# Altium footprint library Analog Devices.PcbLib: 28 footprints (part 2 of 2)
Each footprint in its own frame and in the unit in brackets; x right, y up, seen from the top. Pads: shape width x height; smd on the part's side, far side on the other; paste and mask are expansions set on the pad; w line width, h text height; cw(c..) or ccw(c..) is an arc to the next point about the centre after c.
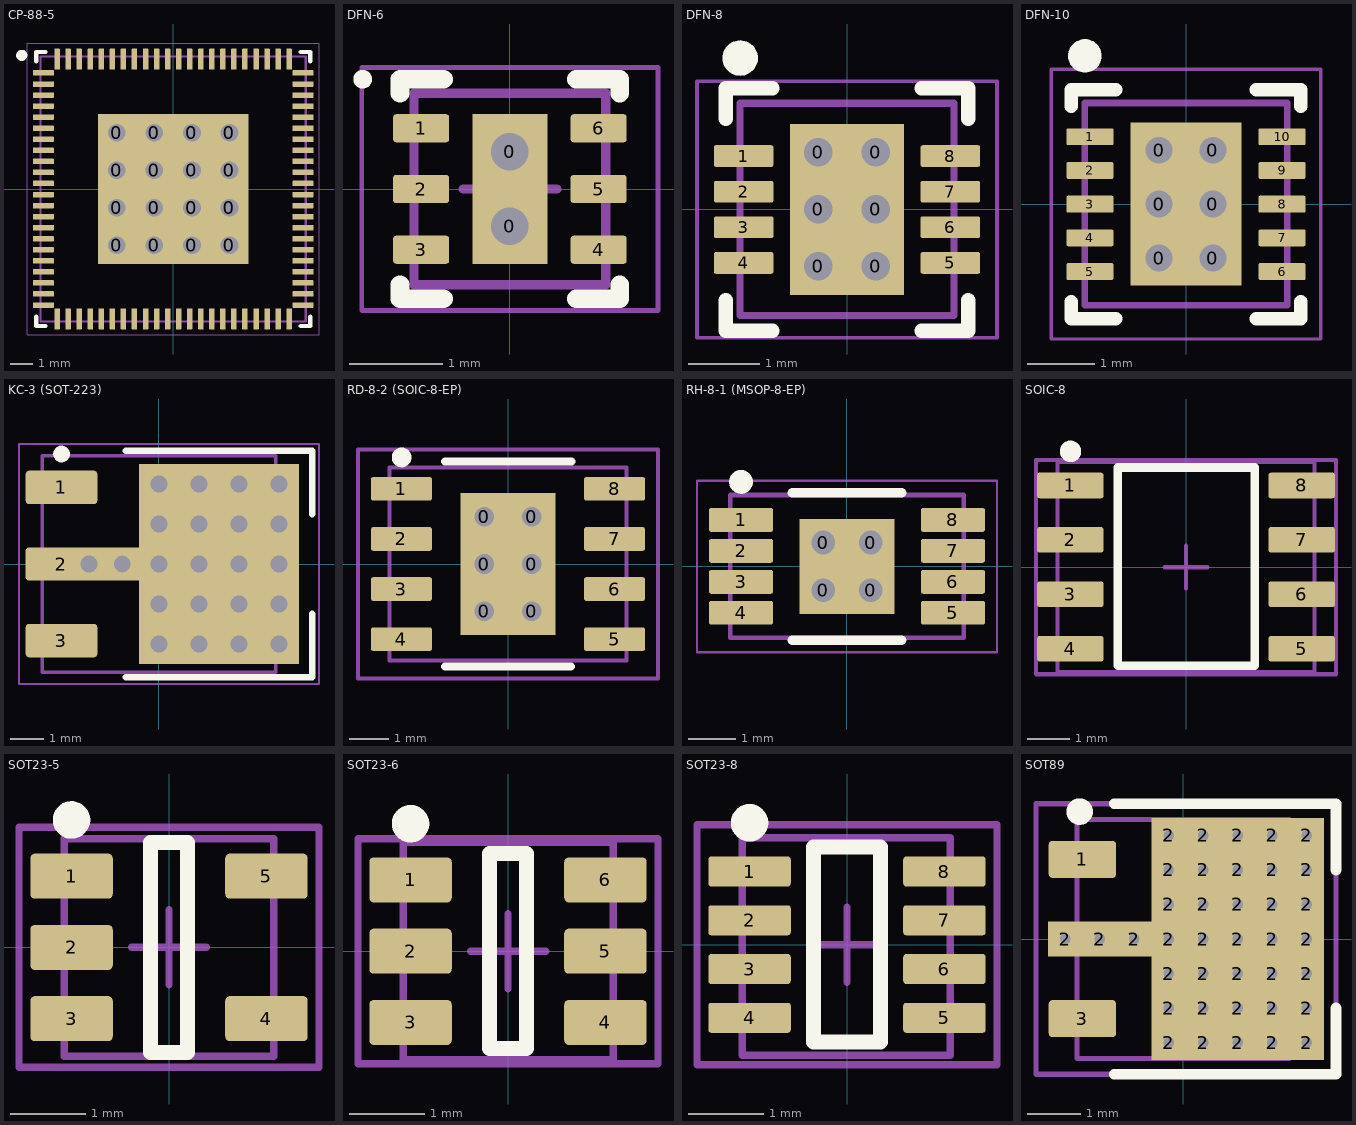
[diagram p1: the footprints below, top view; thin cyan lines are the x and y axes]

## CP-88-5 [mm] "QFN, 88-Leads, Body 12.00x12.00mm, Pitch 0.50mm, Thermal Pad 6.70x6.70mm, IPC Medium Density"
height 0.9
pads (104):
  rect 1.7x1.7 hole 0.8: 0(-2.55,-2.55) 0(-2.55,-0.85) 0(-2.55,0.85) 0(-2.55,2.55) 0(-0.85,-2.55) 0(-0.85,-0.85) 0(-0.85,0.85) 0(-0.85,2.55) 0(0.85,-2.55) 0(0.85,-0.85) 0(0.85,0.85) 0(0.85,2.55) 0(2.55,-2.55) 0(2.55,-0.85) 0(2.55,0.85) 0(2.55,2.55)
  rrect20% 0.95x0.25 smd: 1(-5.875,5.25) 2(-5.875,4.75) 3(-5.875,4.25) 4(-5.875,3.75) 5(-5.875,3.25) 6(-5.875,2.75) 7(-5.875,2.25) 8(-5.875,1.75) 9(-5.875,1.25) 10(-5.875,0.75) 11(-5.875,0.25) 12(-5.875,-0.25) 13(-5.875,-0.75) 14(-5.875,-1.25) 15(-5.875,-1.75) 16(-5.875,-2.25) 17(-5.875,-2.75) 18(-5.875,-3.25) 19(-5.875,-3.75) 20(-5.875,-4.25) 21(-5.875,-4.75) 22(-5.875,-5.25) 45(5.875,-5.25) 46(5.875,-4.75) 47(5.875,-4.25) 48(5.875,-3.75) 49(5.875,-3.25) 50(5.875,-2.75) 51(5.875,-2.25) 52(5.875,-1.75) 53(5.875,-1.25) 54(5.875,-0.75) 55(5.875,-0.25) 56(5.875,0.25) 57(5.875,0.75) 58(5.875,1.25) 59(5.875,1.75) 60(5.875,2.25) 61(5.875,2.75) 62(5.875,3.25) 63(5.875,3.75) 64(5.875,4.25) 65(5.875,4.75) 66(5.875,5.25)
  rrect20% 0.25x0.95 smd: 23(-5.25,-5.875) 24(-4.75,-5.875) 25(-4.25,-5.875) 26(-3.75,-5.875) 27(-3.25,-5.875) 28(-2.75,-5.875) 29(-2.25,-5.875) 30(-1.75,-5.875) 31(-1.25,-5.875) 32(-0.75,-5.875) 33(-0.25,-5.875) 34(0.25,-5.875) 35(0.75,-5.875) 36(1.25,-5.875) 37(1.75,-5.875) 38(2.25,-5.875) 39(2.75,-5.875) 40(3.25,-5.875) 41(3.75,-5.875) 42(4.25,-5.875) 43(4.75,-5.875) 44(5.25,-5.875) 67(5.25,5.875) 68(4.75,5.875) 69(4.25,5.875) 70(3.75,5.875) 71(3.25,5.875) 72(2.75,5.875) 73(2.25,5.875) 74(1.75,5.875) 75(1.25,5.875) 76(0.75,5.875) 77(0.25,5.875) 78(-0.25,5.875) 79(-0.75,5.875) 80(-1.25,5.875) 81(-1.75,5.875) 82(-2.25,5.875) 83(-2.75,5.875) 84(-3.25,5.875) 85(-3.75,5.875) 86(-4.25,5.875) 87(-4.75,5.875) 88(-5.25,5.875)
Top Overlay:
  circle w0.25: c-6.85,6.05 r0.125
  lines w0.2: -6.2,-5.775 -6.2,-6.2 -5.775,-6.2 ; -6.2,5.775 -6.2,6.2 -5.775,6.2 ; 5.775,-6.2 6.2,-6.2 6.2,-5.775 ; 5.775,6.2 6.2,6.2 6.2,5.775
Mechanical 13:
  lines w0.1: -6,-6 6,-6 6,6 -6,6 -6,-6
Mechanical 15:
  lines w0.05: -6.6,-6.6 6.6,-6.6 6.6,6.6 -6.6,6.6 -6.6,-6.6
  lines w0.1: -0.5,0 0.5,0 ; 0,-0.5 0,0.5
3D body "QFN-88-1EP_12x12mm_P0.5mm_EP6.7x6.7mm.STEP": height 0.85, standoff 0, extent -6,-6 6,6

## DFN-6 [mm] "SON, 6-Leads, Body 2.00x2.00mm, Pitch 0.60mm, Thermal Pad 1.40x0.80mm, IPC Medium Density"
height 1
pads (8):
  rect 0.8x0.8 hole 0.4: 0(0,-0.4) 0(0,0.4)
  rrect20% 0.6x0.3 smd: 1(-0.95,0.65) 2(-0.95,0) 3(-0.95,-0.65) 4(0.95,-0.65) 5(0.95,0) 6(0.95,0.65)
Top Overlay:
  circle w0.1: c-1.575,1.175 r0.05
  lines w0.2: -1.175,-1.025 -1.175,-1.175 -0.71,-1.175 ; -1.175,1.025 -1.175,1.175 -0.71,1.175 ; 0.71,-1.175 1.175,-1.175 1.175,-1.025 ; 0.71,1.175 1.175,1.175 1.175,1.025
Mechanical 13:
  lines w0.1: -1.025,-1.025 -1.025,1.025 1.025,1.025 1.025,-1.025 -1.025,-1.025
Mechanical 15:
  lines w0.05: -1.585,-1.3 -1.585,1.3 1.585,1.3 1.585,-1.3 -1.585,-1.3
  lines w0.1: -0.5,0 0.5,0 ; 0,-0.5 0,0.5
3D body "DFN-6-1EP_2x2mm_P0.65mm_EP1x1.6mm.step": height 0.64, standoff 0, extent -1,-0.99 1,0.99

## DFN-8 [mm]
pads (15):
  rect 0.8x0.8 hole 0.4: 0(-0.4,-0.8) 0(-0.4,0) 0(-0.4,0.8) 0(0.4,-0.8) 0(0.4,0) 0(0.4,0.8)
  rrect20% 0.838x0.305 smd: 1(-1.45,0.75) 2(-1.45,0.25) 3(-1.45,-0.25) 4(-1.45,-0.75) 5(1.45,-0.75) 6(1.45,-0.25) 7(1.45,0.25) 8(1.45,0.75)
  round 0.5 on Top Overlay: ""(-1.5,2.125)
Top Overlay:
  lines w0.2: -1.7,-1.275 -1.7,-1.7 -1.045,-1.7 ; -1.7,1.275 -1.7,1.7 -1.045,1.7 ; 1.045,-1.7 1.7,-1.7 1.7,-1.275 ; 1.045,1.7 1.7,1.7 1.7,1.275
Mechanical 1:
  lines w0.1: -1.5,-1.49 1.5,-1.49 1.5,1.49 -1.5,1.49 -1.5,-1.49
Mechanical 15:
  lines w0.05: -2.105,-1.8 -2.105,1.8 2.105,1.8 2.105,-1.8 -2.105,-1.8
3D body "DFN-8-1EP_3x3mm_P0.5mm_EP1.66x2.38mm.step": height 0.77, standoff 0, extent -1.5,-1.49 1.5,1.49

## DFN-10 [mm] "3x3 mm, pitch 0.5 mm, power pad"
height 1
pads (17):
  rect 0.85x0.82 hole 0.4: 0(-0.4,-0.8) 0(-0.4,0) 0(-0.4,0.8) 0(0.4,-0.8) 0(0.4,0) 0(0.4,0.8)
  rrect20% 0.7x0.25 smd mask+0.11: 1(-1.425,1) 2(-1.425,0.5) 3(-1.425,0) 4(-1.425,-0.5) 5(-1.425,-1) 6(1.425,-1) 7(1.425,-0.5) 8(1.425,0) 9(1.425,0.5) 10(1.425,1)
  round 0.5 on Top Overlay: ""(-1.5,2.2)
Top Overlay:
  lines w0.2: -1.7,-1.45 -1.7,-1.7 -1.045,-1.7 ; -1.7,1.45 -1.7,1.7 -1.045,1.7 ; 1.045,-1.7 1.7,-1.7 1.7,-1.45 ; 1.045,1.7 1.7,1.7 1.7,1.45
Mechanical 1:
  lines w0.1: -1.5,-1.5 -1.5,1.5 1.5,1.5 1.5,-1.5 -1.5,-1.5
Mechanical 15:
  lines w0.05: -2,-2 -2,2 2,2 2,-2 -2,-2
3D body "DFN-10-1EP_3x3mm_P0.5mm_EP1.55x2.48mm.step": height 0.77, standoff 0, extent -1.5,-1.49 1.5,1.49

## KC-3 (SOT-223) [mm] "SOT223, 4-Leads, Body 6.50x7.00mm (avg), Pitch 2.30mm, IPC Medium Density"
height 1.7
pads (25):
  rrect20% 2.15x1 smd: 1(-2.925,2.3) 2(-2.925,0) 3(-2.925,-2.3)
  rect 1x1 hole 0.5: ""(-2.1,0) ""(-1.1,0)
  rect 1.2x1.2 hole 0.5: ""(0,-2.4) ""(0,-1.2) ""(0,0) ""(0,1.2) ""(0,2.4) ""(1.2,-2.4) ""(1.2,-1.2) ""(1.2,0) ""(1.2,1.2) ""(1.2,2.4) ""(2.4,-2.4) ""(2.4,-1.2) ""(2.4,0) ""(2.4,1.2) ""(2.4,2.4) ""(3.6,-2.4) ""(3.6,-1.2) ""(3.6,0) ""(3.6,1.2) ""(3.6,2.4)
Top Overlay:
  circle w0.25: c-2.925,3.3 r0.125
  lines w0.2: -1,-3.4 4.6,-3.4 4.6,-1.5 ; -1,3.4 4.6,3.4 4.6,1.5
Mechanical 13:
  lines w0.1: -3.5,-3.25 3.5,-3.25 3.5,3.25 -3.5,3.25 -3.5,-3.25
Mechanical 15:
  lines w0.05: -4.2,-3.6 4.8,-3.6 4.8,3.6 -4.2,3.6 -4.2,-3.6
  lines w0.1: -0.5,0 0.5,0 ; 0,-0.5 0,0.5
3D body "SOT-223.step": height 1.7, standoff 0, extent -3.5,-3.25 3.5,3.25

## RD-8-2 (SOIC-8-EP) [mm] "pitch 1.27 mm, power pad"
pads (14):
  rect 1.2x1.2 hole 0.5: 0(-0.6,-1.2) 0(-0.6,0) 0(-0.6,1.2) 0(0.6,-1.2) 0(0.6,0) 0(0.6,1.2)
  rrect20% 1.55x0.6 smd: 1(-2.7,1.905) 2(-2.7,0.635) 3(-2.7,-0.635) 4(-2.7,-1.905) 5(2.7,-1.905) 6(2.7,-0.635) 7(2.7,0.635) 8(2.7,1.905)
Top Overlay:
  circle w0.25: c-2.695,2.7 r0.125
  lines w0.2: -1.6,-2.6 1.6,-2.6 ; -1.595,2.6 1.605,2.6
Mechanical 1:
  lines w0.1: -3,-2.45 -3,2.45 3,2.45 3,-2.45 -3,-2.45
Mechanical 15:
  lines w0.1: -0.25,0 0.25,0 ; 0,-0.25 0,0.25 ; -3.8,-2.9 -3.8,2.9 3.8,2.9 3.8,-2.9 -3.8,-2.9
3D body "SOIC-8-1EP_3.9x4.9mm_P1.27mm_EP2.35x2.35mm.step": height 1.75, standoff 0, extent -3,-2.45 3,2.45

## RH-8-1 (MSOP-8-EP) [mm] "TSOP, 8-Leads, Body 3.00x3.00mm, Pitch 0.65mm, Thermal Pad 1.83x1.76mm, IPC Medium Density"
height 1.1
pads (12):
  rect 1x1 hole 0.5: 0(-0.5,-0.5) 0(-0.5,0.5) 0(0.5,-0.5) 0(0.5,0.5)
  rrect20% 1.35x0.5 smd: 1(-2.225,0.975) 2(-2.225,0.325) 3(-2.225,-0.325) 4(-2.225,-0.975) 5(2.225,-0.975) 6(2.225,-0.325) 7(2.225,0.325) 8(2.225,0.975)
Top Overlay:
  circle w0.25: c-2.225,1.775 r0.125
  lines w0.2: -1.15,-1.55 1.15,-1.55 ; -1.15,1.55 1.15,1.55
Mechanical 13:
  lines w0.1: -2.45,-1.5 2.45,-1.5 2.45,1.5 -2.45,1.5 -2.45,-1.5
Mechanical 15:
  lines w0.05: -3.15,-1.8 -3.15,1.8 3.15,1.8 3.15,-1.8 -3.15,-1.8
  lines w0.1: -0.5,0 0.5,0 ; 0,-0.5 0,0.5
3D body "MSOP-8-1EP_3x3mm_P0.65mm_EP1.68x1.88mm.step": height 0.95, standoff 0, extent -2.45,-1.5 2.45,1.5

## SOIC-8 [mm] "pitch 1.27 mm"
pads (8):
  rrect20% 1.55x0.6 smd: 1(-2.7,1.905) 2(-2.7,0.635) 3(-2.7,-0.635) 4(-2.7,-1.905) 5(2.7,-1.905) 6(2.7,-0.635) 7(2.7,0.635) 8(2.7,1.905)
Top Overlay:
  circle w0.25: c-2.695,2.7 r0.125
  lines w0.2: -1.595,-2.3 1.605,-2.3 1.605,2.325 -1.595,2.325 -1.595,-2.3
Mechanical 1:
  lines w0.1: -3,-2.45 -3,2.45 3,2.45 3,-2.45 -3,-2.45
Mechanical 15:
  lines w0.1: -0.5,0 0.5,0 ; 0,-0.5 0,0.5 ; -3.5,-2.5 -3.5,2.5 3.5,2.5 3.5,-2.5 -3.5,-2.5
3D body "SOIC-8_3.9x4.9mm_P1.27mm.step": height 1.75, standoff 0, extent -3,-2.45 3,2.45

## SOT23-5 [mm] "pitch 0.95 mm"
height 1.45
pads (5):
  rrect20% 1.1x0.6 smd: 1(-1.3,0.95) 2(-1.3,0) 3(-1.3,-0.95) 4(1.3,-0.95) 5(1.3,0.95)
Top Overlay:
  circle w0.25: c-1.3,1.7 r0.125
  lines w0.2: -0.25,-1.4 -0.25,1.4 0.25,1.4 0.25,-1.4 -0.25,-1.4
Mechanical 1:
  lines w0.1: -1.4,-1.45 1.4,-1.45 1.4,1.45 -1.4,1.45 -1.4,-1.45
Mechanical 15:
  lines w0.1: -0.5,0 0.5,0 ; 0,-0.5 0,0.5 ; -2,-1.6 2,-1.6 2,1.6 -2,1.6 -2,-1.6
3D body "SOT-23-5.step": height 1.55, standoff 0, extent -1.4,-1.45 1.4,1.45

## SOT23-6 [mm] "pitch 0.95 mm"
height 1.1
pads (6):
  rrect20% 1.1x0.6 smd: 1(-1.3,0.95) 2(-1.3,0) 3(-1.3,-0.95) 4(1.3,-0.95) 5(1.3,0) 6(1.3,0.95)
Top Overlay:
  circle w0.25: c-1.3,1.7 r0.125
  lines w0.2: -0.25,-1.3 -0.25,1.3 0.25,1.3 0.25,-1.3 -0.25,-1.3
Mechanical 1:
  lines w0.1: -1.4,-1.45 1.4,-1.45 1.4,1.45 -1.4,1.45 -1.4,-1.45
Mechanical 15:
  lines w0.1: -0.5,0 0.5,0 ; 0,-0.5 0,0.5 ; -2,-1.5 2,-1.5 2,1.5 -2,1.5 -2,-1.5
3D body "SOT-23-6.step": height 1.55, standoff 0, extent -1.4,-1.45 1.4,1.45

## SOT23-8 [mm] "pitch 0.95 mm"
height 1.45
pads (8):
  rrect20% 1.1x0.4 smd: 1(-1.3,0.975) 2(-1.3,0.325) 3(-1.3,-0.325) 4(-1.3,-0.975) 5(1.3,-0.975) 6(1.3,-0.325) 7(1.3,0.325) 8(1.3,0.975)
Top Overlay:
  circle w0.25: c-1.3,1.625 r0.125
  lines w0.2: -0.45,-1.3 -0.45,1.3 0.45,1.3 0.45,-1.3 -0.45,-1.3
Mechanical 1:
  lines w0.1: -1.4,-1.475 -1.4,1.425 1.375,1.425 1.375,-1.475 -1.4,-1.475
Mechanical 15:
  lines w0.1: -0.5,0 0.5,0 ; 0,-0.5 0,0.5 ; -2,-1.6 -2,1.6 2,1.6 2,-1.6 -2,-1.6
3D body "SOT-23-8.step": height 1.2, standoff 0, extent -1.4,-1.45 1.4,1.45

## SOT89 [mm] "SOT89, 3-Leads, Body 4,50x2,45mm, Pitch 1,50mm, Lead Span 4,1mm, IPC Medium Density"
height 1.6
pads (40):
  rrect20% 1.27x0.7 smd: 1(-1.897,1.5) 3(-1.897,-1.5)
  rect 0.65x0.65 hole 0.2: 2(-2.222,0) 2(-1.572,0) 2(-0.923,0) 2(-0.272,-1.95) 2(-0.272,-1.3) 2(-0.272,-0.65) 2(-0.272,0) 2(-0.272,0.65) 2(-0.272,1.3) 2(-0.272,1.95) 2(0.377,-1.95) 2(0.377,-1.3) 2(0.377,-0.65) 2(0.377,0) 2(0.377,0.65) 2(0.377,1.3) 2(0.377,1.95) 2(1.028,-1.95) 2(1.028,-1.3) 2(1.028,-0.65) 2(1.028,0) 2(1.028,0.65) 2(1.028,1.3) 2(1.028,1.95) 2(1.677,-1.95) 2(1.677,1.95) 2(1.678,-1.3) 2(1.678,-0.65) 2(1.678,0) 2(1.678,0.65) 2(1.678,1.3) 2(2.328,-1.95) 2(2.328,-1.3) 2(2.328,-0.65) 2(2.328,0) 2(2.328,0.65) 2(2.328,1.3) 2(2.328,1.95)
Top Overlay:
  circle w0.25: c-1.95,2.4 r0.125
  lines w0.2: -1.298,-2.55 2.877,-2.55 2.877,-1.3 ; -1.298,2.55 2.877,2.55 2.877,1.3
Mechanical 1:
  lines w0.1: -2,-2.25 -2,2.25 2,2.25 2,-2.25 -2,-2.25
Mechanical 15:
  lines w0.1: -0.5,0 0.5,0 ; 0,-0.5 0,0.5 ; -2.772,-2.55 -2.772,2.55 2.877,2.55 2.877,-2.55 -2.772,-2.55
3D body "SOT-89-3.step": height 1.52, standoff 0, extent -2,-2.25 2,2.25